# Altium footprint library ESP32-C3-WROOM-02U-N4.PcbLib: 1 footprints
Each footprint in its own frame and in the unit in brackets; x right, y up, seen from the top. Pads: shape width x height; smd on the part's side, far side on the other; paste and mask are expansions set on the pad; w line width, h text height; cw(c..) or ccw(c..) is an arc to the next point about the centre after c.
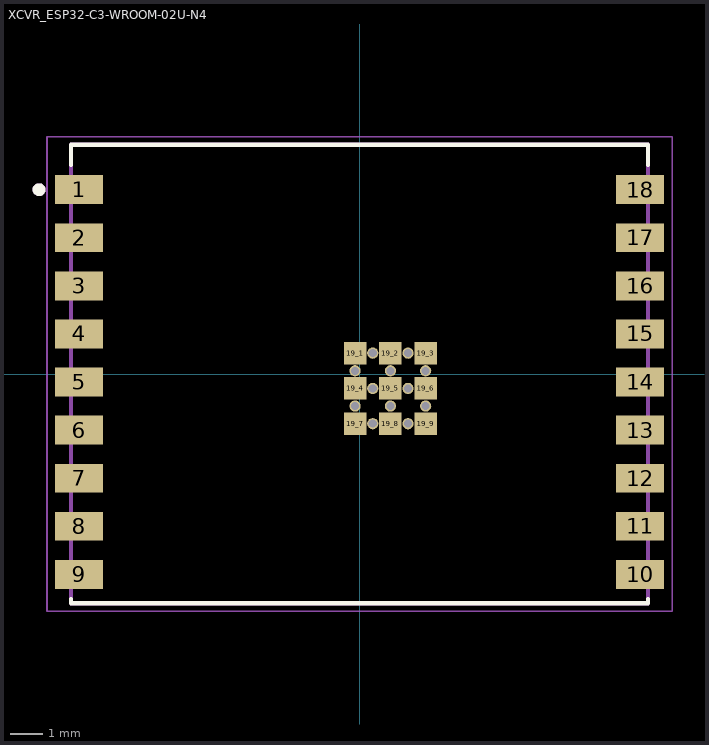
[diagram p0: the footprint, top view; thin cyan lines are the x and y axes]

## XCVR_ESP32-C3-WROOM-02U-N4 [mm]
height 3.35
pads (39):
  rect 1.5x0.9 smd: 1(-8.75,5.75) 2(-8.75,4.25) 3(-8.75,2.75) 4(-8.75,1.25) 5(-8.75,-0.25) 6(-8.75,-1.75) 7(-8.75,-3.25) 8(-8.75,-4.75) 9(-8.75,-6.25) 10(8.75,-6.25) 11(8.75,-4.75) 12(8.75,-3.25) 13(8.75,-1.75) 14(8.75,-0.25) 15(8.75,1.25) 16(8.75,2.75) 17(8.75,4.25) 18(8.75,5.75)
  rect 0.7x0.7 smd: 19_1(-0.14,0.65) 19_2(0.96,0.65) 19_3(2.06,0.65) 19_4(-0.14,-0.45) 19_5(0.96,-0.45) 19_6(2.06,-0.45) 19_7(-0.14,-1.55) 19_8(0.96,-1.55) 19_9(2.06,-1.55)
  round 0.35 hole 0.25 mask+0: 20_1(0.41,0.65) 20_2(1.51,0.65) 20_3(-0.14,0.1) 20_4(0.96,0.1) 20_5(2.06,0.1) 20_6(0.41,-0.45) 20_7(1.51,-0.45) 20_8(-0.14,-1) 20_9(0.96,-1) 20_10(2.06,-1) 20_11(0.41,-1.55) 20_12(1.51,-1.55)
Top Overlay:
  circle w0.2: c-10,5.75 r0.1
  lines w0.127: -9,-7.02 -9,-7.15 9,-7.15 9,-7.02 ; -9,6.52 -9,7.15 9,7.15 9,6.52
Mechanical 13:
  circle w0.2: c-10,5.75 r0.1
  lines w0.127: -9,-7.15 -9,7.15 9,7.15 9,-7.15 -9,-7.15
Mechanical 15:
  lines w0.05: -9.75,-7.4 -9.75,7.4 9.75,7.4 9.75,-7.4 -9.75,-7.4
3D body "ESP32-C3-WROOM-02U 3D Model.STEP": height 3.2, standoff 0, extent -8.89,-7.112 9.11,7.188